# Altium schematic symbol library Argus.SchLib: 5 symbols
Pins are listed as number, name and electrical type; pins without a type are passive.

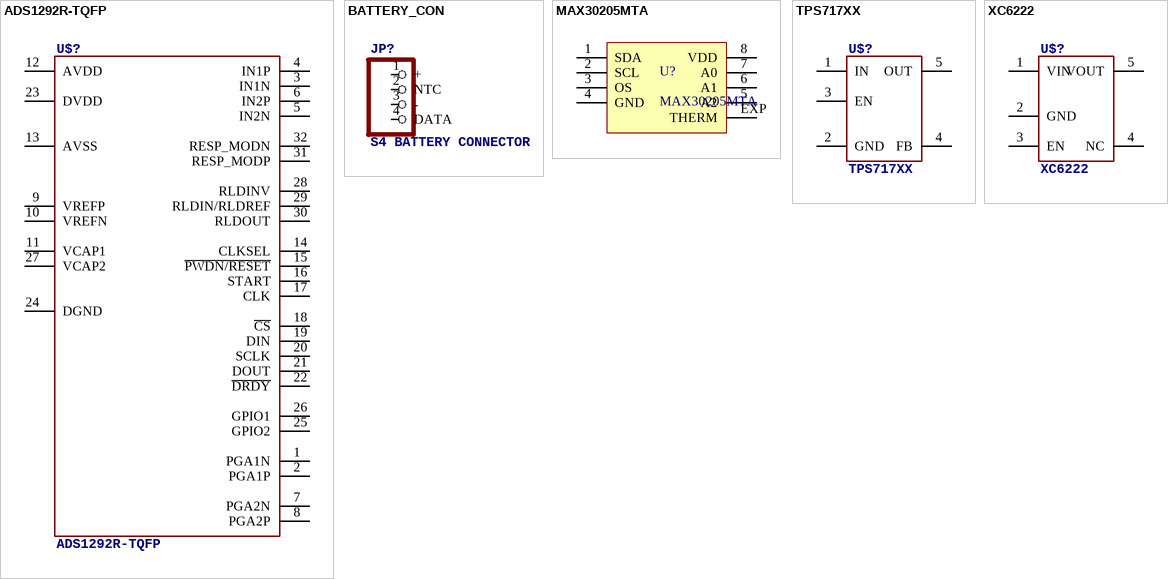
[diagram p0: symbols ADS1292R-TQFP to XC6222]

## ADS1292R-TQFP
designator U$?
footprint SQFP-S-5X5-32
pins: 1 PGA1N, 2 PGA1P, 3 IN1N, 4 IN1P, 5 IN2N, 6 IN2P, 7 PGA2N, 8 PGA2P, 9 VREFP, 10 VREFN, 11 VCAP1, 12 AVDD (power), 13 AVSS, 14 CLKSEL, 15 ~{PWDN/RESET}, 16 START, 17 CLK, 18 ~{CS}, 19 DIN, 20 SCLK, 21 DOUT, 22 ~{DRDY}, 23 DVDD (power), 24 DGND, 25 GPIO2, 26 GPIO1, 27 VCAP2, 28 RLDINV, 29 RLDIN/RLDREF, 30 RLDOUT, 31 RESP_MODP, 32 RESP_MODN

## BATTERY_CON
designator JP?, comment S4 BATTERY CONNECTOR
footprint S4_BATTERY_CON
pins: 1 +, 2 NTC, 3 -, 4 DATA

## MAX30205MTA
designator U?
Human Body Temperature Sensor
footprint TDFN8
pins: 1 SDA, 2 SCL, 3 OS, 4 GND, 5 A2, 6 A1, 7 A0, 8 VDD, EXP THERM

## TPS717XX
designator U$?
footprint SC70-5
pins: 1 IN, 2 GND, 3 EN, 4 FB, 5 OUT

## XC6222
designator U$?
700mA High Speed LDO Regulator
footprint SOT25
pins: 1 VIN, 2 GND, 3 EN, 4 NC, 5 VOUT